# Altium footprint library SOM_MCU.PcbLib: 10 footprints
Each footprint in its own frame and in the unit in brackets; x right, y up, seen from the top. Pads: shape width x height; smd on the part's side, far side on the other; paste and mask are expansions set on the pad; w line width, h text height; cw(c..) or ccw(c..) is an arc to the next point about the centre after c.
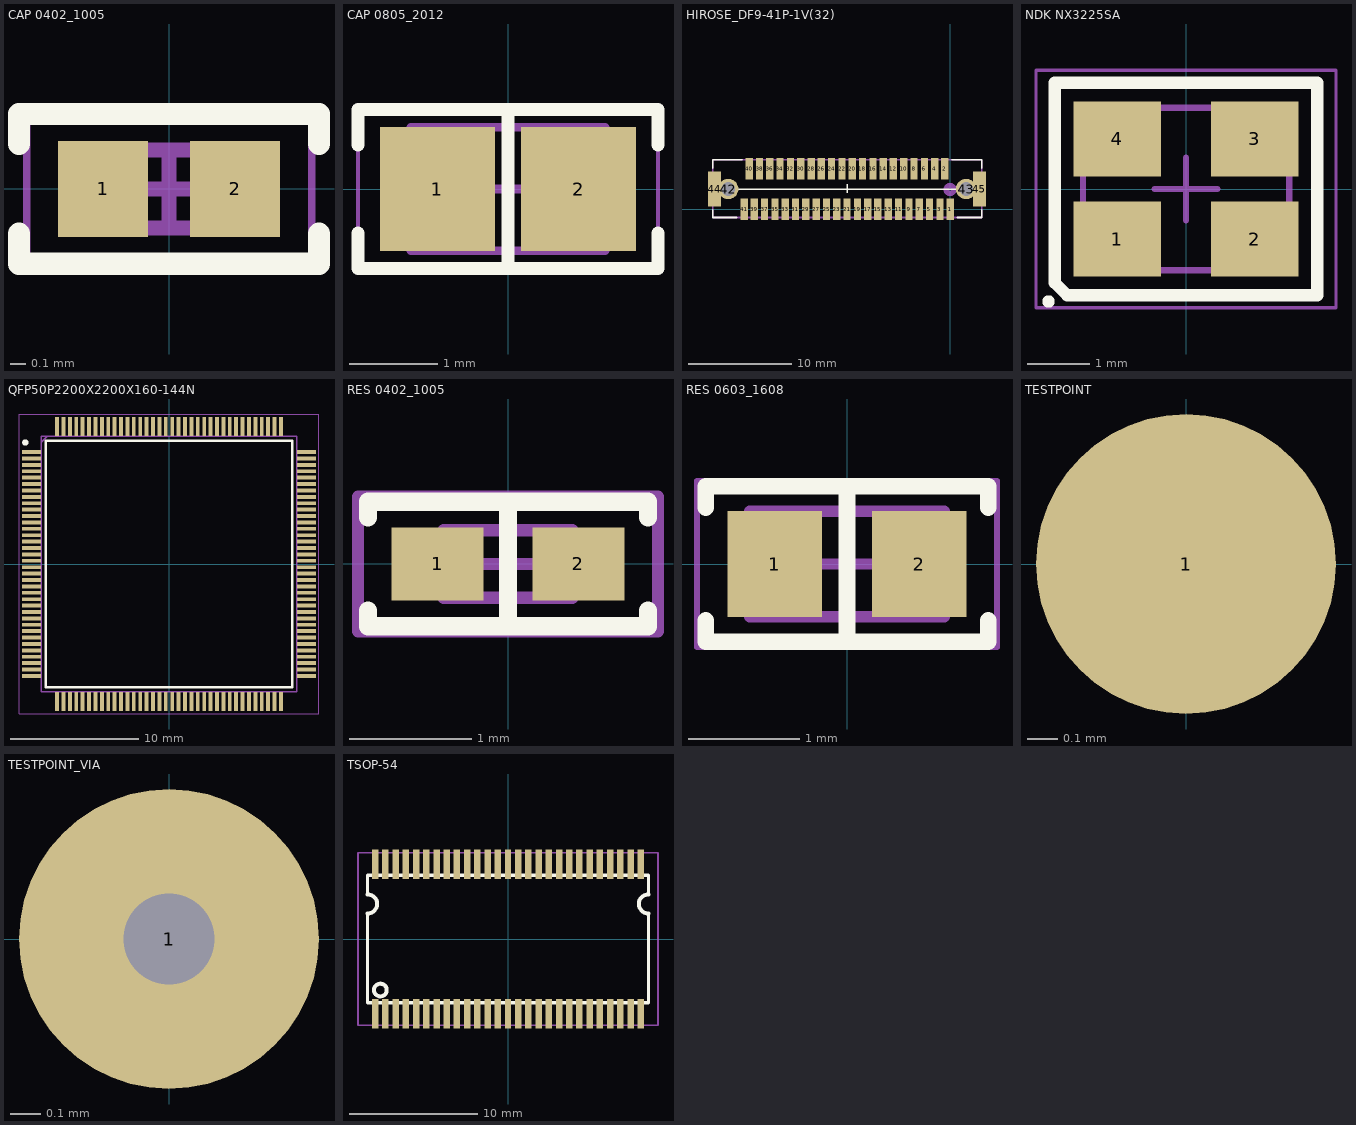
[diagram p0: the footprints below, top view; thin cyan lines are the x and y axes]

## CAP 0402_1005 [mm]
pads (2):
  rect 0.6x0.64 smd: 1(-0.44,0) 2(0.44,0)
Top Overlay:
  lines w0.15: -1,-0.3 -1,-0.5 1,-0.5 1,-0.3 ; -1,0.3 -1,0.5 1,0.5 1,0.3
Mechanical 13:
  lines w0.1: -0.515,-0.26 -0.515,0.26 0.515,0.26 0.515,-0.26 -0.515,-0.26
Mechanical 15:
  lines w0.05: -0.95,-0.5 -0.95,0.5 0.95,0.5 0.95,-0.5 -0.95,-0.5
  lines w0.1: -0.26,0 0.26,0 ; 0,-0.26 0,0.26
3D body "0402 cap.STEP": height 0.52, standoff 0, extent -0.5,-0.262 0.5,0.262

## CAP 0805_2012 [mm]
pads (2):
  rect 1.3x1.4 smd: 1(-0.8,0) 2(0.8,0)
Top Overlay:
  lines w0.15: -1.7,-0.5 -1.7,-0.9 1.7,-0.9 1.7,-0.5 ; -1.7,0.5 -1.7,0.9 1.7,0.9 1.7,0.5 ; 0,-0.9 0,0.9
Mechanical 13:
  lines w0.1: -1.1,-0.7 1.1,-0.7 1.1,0.7 -1.1,0.7 -1.1,-0.7
Mechanical 15:
  lines w0.05: -1.7,-0.95 1.7,-0.95 1.7,0.95 -1.7,0.95 -1.7,-0.95
  lines w0.1: -0.5,0 0.5,0 ; 0,-0.5 0,0.5
3D body "0805 cap.STEP": height 1.26, standoff -0.02, extent -1,-0.637 1,0.637

## HIROSE_DF9-41P-1V(32) [mil]
pads (45):
  rect 28x82 smd: 1(0,0) 2(-20,154) 3(-39,0) 4(-59,154) 5(-79,0) 6(-98,154) 7(-118,0) 8(-138,154) 9(-157,0) 10(-177,154) 11(-197,0) 12(-217,154) 13(-236,0) 14(-256,154) 15(-276,0) 16(-295,154) 17(-315,0) 18(-335,154) 19(-354,0) 20(-374,154) 21(-394,0) 22(-413,154) 23(-433,0) 24(-453,154) 25(-472,0) 26(-492,154) 27(-512,0) 28(-531,154) 29(-551,0) 30(-571,154) 31(-591,0) 32(-610,154) 33(-630,0) 34(-650,154) 35(-669,0) 36(-689,154) 37(-709,0) 38(-728,154) 39(-748,0) 40(-768,154) 41(-787,0)
  round 78 hole 52: 42(-848,77) 43(61,77)
  rect 51x134 smd: 44(-900,77) 45(112,77)
Top Overlay:
  lines w5: -848,77 61,77 ; -393.7,62.99 -393.7,94.49
  lines w6: -907,-3 -907,-32 -815,-32 ; -907,157 -907,188 -795,188 ; 7,188 120,188 120,157 ; 27,-32 120,-32 120,-3
Mechanical 13:
  lines w6: -907,-32 120,-32 120,188 -907,188 -907,-32
  lines w20: 0,60 ccw(c0,75) 0,90 ccw(c0,75) 0,60
3D body: height 43.31, standoff 0, extent 79.14,8.33 134.26,146.13
3D body: height 43.31, standoff 0, extent -921.26,7.87 -866.14,145.67
3D body: height 133.86, standoff 0, extent -868.11,-1.74 80.71,155.74

## NDK NX3225SA [mm]
pads (4):
  rect 1.4x1.2 smd: 1(-1.1,-0.8) 2(1.1,-0.8) 3(1.1,0.8) 4(-1.1,0.8)
Top Overlay:
  circle w0.1: c-2.2,-1.8 r0.05
  lines w0.2: -2.1,-1.5 -2.1,1.7 2.1,1.7 2.1,-1.7 -1.1,-1.7 -1.9,-1.7 -2.1,-1.5
Mechanical 13:
  lines w0.1: -1.65,-1.3 -1.65,1.3 1.65,1.3 1.65,-1.3 -1.65,-1.3
Mechanical 15:
  lines w0.05: -2.4,-1.9 -2.4,1.9 2.4,1.9 2.4,-1.9 -2.4,-1.9
  lines w0.1: -0.5,0 0.5,0 ; 0,-0.5 0,0.5
3D body "NDK NX3225SA.STEP": height 0.6, standoff 0, extent -1.61,-1.26 1.61,1.26

## QFP50P2200X2200X160-144N [mm]
pads (144):
  rect 1.475x0.3 smd: 1(-10.738,8.75) 2(-10.738,8.25) 3(-10.738,7.75) 4(-10.738,7.25) 5(-10.738,6.75) 6(-10.738,6.25) 7(-10.738,5.75) 8(-10.738,5.25) 9(-10.738,4.75) 10(-10.738,4.25) 11(-10.738,3.75) 12(-10.738,3.25) 13(-10.738,2.75) 14(-10.738,2.25) 15(-10.738,1.75) 16(-10.738,1.25) 17(-10.738,0.75) 18(-10.738,0.25) 19(-10.738,-0.25) 20(-10.738,-0.75) 21(-10.738,-1.25) 22(-10.738,-1.75) 23(-10.738,-2.25) 24(-10.738,-2.75) 25(-10.738,-3.25) 26(-10.738,-3.75) 27(-10.738,-4.25) 28(-10.738,-4.75) 29(-10.738,-5.25) 30(-10.738,-5.75) 31(-10.738,-6.25) 32(-10.738,-6.75) 33(-10.738,-7.25) 34(-10.738,-7.75) 35(-10.738,-8.25) 36(-10.738,-8.75) 73(10.738,-8.75) 74(10.738,-8.25) 75(10.738,-7.75) 76(10.738,-7.25) 77(10.738,-6.75) 78(10.738,-6.25) 79(10.738,-5.75) 80(10.738,-5.25) 81(10.738,-4.75) 82(10.738,-4.25) 83(10.738,-3.75) 84(10.738,-3.25) 85(10.738,-2.75) 86(10.738,-2.25) 87(10.738,-1.75) 88(10.738,-1.25) 89(10.738,-0.75) 90(10.738,-0.25) 91(10.738,0.25) 92(10.738,0.75) 93(10.738,1.25) 94(10.738,1.75) 95(10.738,2.25) 96(10.738,2.75) 97(10.738,3.25) 98(10.738,3.75) 99(10.738,4.25) 100(10.738,4.75) 101(10.738,5.25) 102(10.738,5.75) 103(10.738,6.25) 104(10.738,6.75) 105(10.738,7.25) 106(10.738,7.75) 107(10.738,8.25) 108(10.738,8.75)
  rect 0.3x1.475 smd: 37(-8.75,-10.738) 38(-8.25,-10.738) 39(-7.75,-10.738) 40(-7.25,-10.738) 41(-6.75,-10.738) 42(-6.25,-10.738) 43(-5.75,-10.738) 44(-5.25,-10.738) 45(-4.75,-10.738) 46(-4.25,-10.738) 47(-3.75,-10.738) 48(-3.25,-10.738) 49(-2.75,-10.738) 50(-2.25,-10.738) 51(-1.75,-10.738) 52(-1.25,-10.738) 53(-0.75,-10.738) 54(-0.25,-10.738) 55(0.25,-10.738) 56(0.75,-10.738) 57(1.25,-10.738) 58(1.75,-10.738) 59(2.25,-10.738) 60(2.75,-10.738) 61(3.25,-10.738) 62(3.75,-10.738) 63(4.25,-10.738) 64(4.75,-10.738) 65(5.25,-10.738) 66(5.75,-10.738) 67(6.25,-10.738) 68(6.75,-10.738) 69(7.25,-10.738) 70(7.75,-10.738) 71(8.25,-10.738) 72(8.75,-10.738) 109(8.75,10.738) 110(8.25,10.738) 111(7.75,10.738) 112(7.25,10.738) 113(6.75,10.738) 114(6.25,10.738) 115(5.75,10.738) 116(5.25,10.738) 117(4.75,10.738) 118(4.25,10.738) 119(3.75,10.738) 120(3.25,10.738) 121(2.75,10.738) 122(2.25,10.738) 123(1.75,10.738) 124(1.25,10.738) 125(0.75,10.738) 126(0.25,10.738) 127(-0.25,10.738) 128(-0.75,10.738) 129(-1.25,10.738) 130(-1.75,10.738) 131(-2.25,10.738) 132(-2.75,10.738) 133(-3.25,10.738) 134(-3.75,10.738) 135(-4.25,10.738) 136(-4.75,10.738) 137(-5.25,10.738) 138(-5.75,10.738) 139(-6.25,10.738) 140(-6.75,10.738) 141(-7.25,10.738) 142(-7.75,10.738) 143(-8.25,10.738) 144(-8.75,10.738)
Top Overlay:
  circle w0.25: c-11.225,9.5 r0.125
  lines w0.2: -9.65,-9.65 -9.65,9.65 9.65,9.65 9.65,-9.65 -9.65,-9.65
Mechanical 13:
  lines w0.1: -10,9.5 -9.5,10 ; -10,-10 -10,10 10,10 10,-10 -10,-10
Mechanical 15:
  lines w0.05: -11.725,-11.725 -11.725,11.725 11.725,11.725 11.725,-11.725 -11.725,-11.725
3D body "STM32H743ZIT6U.stp": height 1.6, standoff 0, extent -11,-11 11,11

## RES 0402_1005 [mm]
pads (2):
  rect 0.75x0.6 smd: 1(-0.575,0) 2(0.575,0)
Top Overlay:
  lines w0.15: -1.143,-0.381 -1.143,-0.508 1.143,-0.508 1.143,-0.381 ; -1.143,0.381 -1.143,0.508 1.143,0.508 1.143,0.381 ; 0,-0.508 0,0.508
Mechanical 13:
  lines w0.1: -0.525,-0.275 0.525,-0.275 0.525,0.275 -0.525,0.275 -0.525,-0.275
Mechanical 15:
  lines w0.1: -0.275,0 0.275,0 ; 0,-0.275 0,0.275 ; -1.225,-0.55 1.225,-0.55 1.225,0.55 -1.225,0.55 -1.225,-0.55
3D body "0402 resistor.STEP": height 0.35, standoff 0, extent -0.5,-0.25 0.5,0.25

## RES 0603_1608 [mm]
pads (2):
  rect 0.85x0.95 smd: 1(-0.65,0) 2(0.65,0)
Top Overlay:
  lines w0.15: -1.27,-0.508 -1.27,-0.7 1.27,-0.7 1.27,-0.508 ; -1.27,0.508 -1.27,0.7 1.27,0.7 1.27,0.508 ; 0,-0.7 0,0.7
Mechanical 13:
  lines w0.1: -0.875,-0.475 0.875,-0.475 0.875,0.475 -0.875,0.475 -0.875,-0.475
Mechanical 15:
  lines w0.05: -1.35,-0.75 1.35,-0.75 1.35,0.75 -1.35,0.75 -1.35,-0.75
  lines w0.1: -0.475,0 0.475,0 ; 0,-0.475 0,0.475
3D body "0603 resistor.STEP": height 0.45, standoff 0, extent -0.8,-0.4 0.8,0.4

## TESTPOINT [mm]
pads (1):
  round 1 / inner round 0 / far side round 0 all layers, no hole mask+0.05: 1(0,0)

## TESTPOINT_VIA [mm]
pads (1):
  round 1 / inner round 1 / far side round 0 all layers, no hole mask+0.102: 1(0,0)
via 0,0 diameter 0.6 hole 0.305

## TSOP-54 [mil]
pads (54):
  rect 20x90 smd: 1(-409.45,-230.31) 2(-377.95,-230.31) 3(-346.46,-230.31) 4(-314.96,-230.31) 5(-283.46,-230.31) 6(-251.97,-230.31) 7(-220.47,-230.31) 8(-188.98,-230.31) 9(-157.48,-230.31) 10(-125.98,-230.31) 11(-94.49,-230.31) 12(-62.99,-230.31) 13(-31.5,-230.31) 14(0,-230.31) 15(31.5,-230.31) 16(62.99,-230.31) 17(94.49,-230.31) 18(125.98,-230.31) 19(157.48,-230.31) 20(188.98,-230.31) 21(220.47,-230.31) 22(251.97,-230.31) 23(283.46,-230.31) 24(314.96,-230.31) 25(346.46,-230.31) 26(377.95,-230.31) 27(409.45,-230.31) 28(409.45,230.31) 29(377.95,230.31) 30(346.46,230.31) 31(314.96,230.31) 32(283.46,230.31) 33(251.97,230.31) 34(220.47,230.31) 35(188.98,230.31) 36(157.48,230.31) 37(125.98,230.31) 38(94.49,230.31) 39(62.99,230.31) 40(31.5,230.31) 41(0,230.31) 42(-31.5,230.31) 43(-62.99,230.31) 44(-94.49,230.31) 45(-125.98,230.31) 46(-157.48,230.31) 47(-188.98,230.31) 48(-220.47,230.31) 49(-251.97,230.31) 50(-283.46,230.31) 51(-314.96,230.31) 52(-346.46,230.31) 53(-377.95,230.31) 54(-409.45,230.31)
Top Overlay:
  circle w12: c-393.7,-157.48 r19.68
  lines w10: -433.07,78.74 -433.07,-196.85 433.07,-196.85 433.07,78.74 ; -433.07,137.8 -433.07,196.85 433.07,196.85 433.07,137.8
  lines w12: -433.07,78.74 ccw(c-433.07,108.27) -433.07,137.8 ; 433.07,78.74 cw(c433.07,108.27) 433.07,137.8
Mechanical 16:
  lines w5: -462.6,-265.75 462.6,-265.75 462.6,265.75 -462.6,265.75 -462.6,-265.75
3D body "TSOP54_PIN_Package_Code_T.STEP": height 55.12, standoff 6.35, extent -442.92,-230.32 442.91,226.09